# Altium schematic symbol library Main Shield Board.SchLib: 7 symbols
Pins are listed as number, name and electrical type; pins without a type are passive.

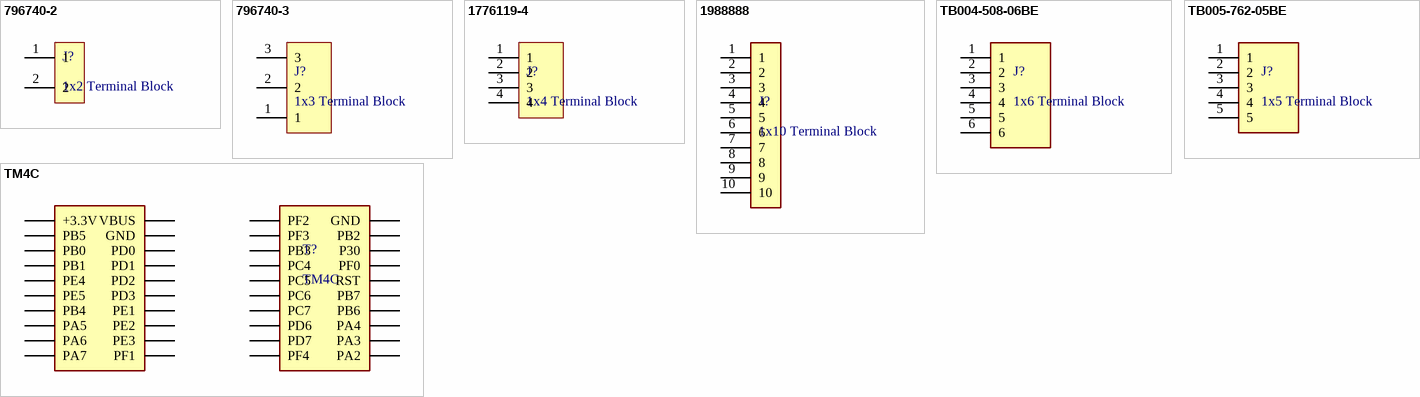
[diagram p0: symbols 796740-2 to TM4C]

## 796740-2
designator J?, comment 1x2 Terminal Block
Conn Terminal Block 2 POS 6.35mm Solder RA Thru-Hole 32A/Contact; Manufacturer: TE Connectivity; Manufacturer Part Number: 796740-2; Plating: Brass; Max Current Rating: 30A; Number of Poles: 2; Max Voltage Rating (AC): 300V; Number of Levels: 1; Connector Type: Plug; Interlock: Yes (With); Screw Flange: No (Without); Wire Gauge (Max): 24AWG; Thread Size: M3; Tail Length: 0.197inch; Approvals: UL; Supplier 1: Digi-Key; Supplier Part Number 1: A98275-ND; RoHS: Yes; Category: Terminal Blocks; Stock 1: 5197; Pricing 1: 1=2.26000, 10=1.70900, 25=1.58440, 50=1.42440, 100=1.38970, 250=1.21596, 500=1.11172, 1000=1.00750, 5000=0.92644 (USD); Mount: Through Hole; Contact Plating: Tin; Contact Material: Brass; Color: Green; Housing Color: Green; Housing Material: Polyamide; Number of Rows: 1; Current Rating: 30A; Package Quantity: 200; Packaging: Carton; Voltage Rating: 300V; Number of Positions: 2; Termination: Screw; Number of Positions Per Level: 2; Current: 30A; Voltage: 300V; Max Supply Voltage (AC): 300V; Number of Contacts: 2; Number of Circuits: 2; Orientation: Right Angle; Screwless Terminal Block: No (Without); Shrouded: No (Without); Side Stackable: No (Without); Series: Buchanan; Length: 13.3mm; Wire Gauge (Min): 24AWG; Pitch: 6.35mm; Depth: 12.5mm; Radiation Hardening: No; Lead Free: Lead Free; ELV: Compliant; Flammability Rating: UL94 V-0; RoHS Compliant: Yes; ComponentLink1URL: https://datasheet.ciiva.com/823/eng-cd-796740-c1-823477.pdf?src-supplier=Digi-Key; ComponentLink1Description: https://datasheet.ciiva.com/823/eng-cd-796740-c1-823477.pdf?src-supplier=Digi-Key; ComponentLink2URL: https://datasheet.ciiva.com/23766/eng-cd-796740-c1-23766211.pdf?src-supplier=Newark; ComponentLink2Description: https://datasheet.ciiva.com/23766/eng-cd-796740-c1-23766211.pdf?src-supplier=Newark; ComponentLink3URL: https://datasheet.ciiva.com/3141/eng-cs-1308389-eurostyle-terminal-blocks-0607-3141691.pdf?src-supplier=Avnet; ComponentLink3Description: https://datasheet.ciiva.com/3141/eng-cs-1308389-eurostyle-terminal-blocks-0607-3141691.pdf?src-supplier=Avnet; ComponentLink4URL: https://datasheet.ciiva.com/30130/eng-cs-1308389-eurostyle-terminal-blocks-0607-30130345.pdf?src-supplier=Onlinecomponents.com; ComponentLink4Description: https://datasheet.ciiva.com/30130/eng-cs-1308389-eurostyle-terminal-blocks-0607-30130345.pdf?src-supplier=Onlinecomponents.com; ComponentLink5URL: https://datasheet.ciiva.com/1416/1650926-1416332.pdf?src-supplier=Element14; ComponentLink5Description: https://datasheet.ciiva.com/1416/1650926-1416332.pdf?src-supplier=Element14
footprint TE_796740-2
pins: 1, 2

## 796740-3
designator J?, comment 1x3 Terminal Block
Conn Terminal Block 3 POS 6.35mm Solder ST Thru-Hole 32A/Contact; Manufacturer: TE Connectivity; Manufacturer Part Number: 796740-3; Plating: Brass; Current Rating: 30A; Voltage Rating (AC): 300V; Number of Positions: 3; Number of Levels: 1; Connector Type: Plug; Interlock: Yes (With); Screw Flange: No (Without); Wire Gauge (Max): 24AWG; Thread Size: M3; Tail Length: 0.197inch; Supplier 1: Digi-Key; Supplier Part Number 1: A98276-ND; RoHS: Yes; Category: Terminal Blocks; Stock 1: 7857; Pricing 1: 1=3.06000, 10=2.31700, 25=2.14760, 50=1.93080, 100=1.88370, 250=1.64828, 500=1.50700, 1000=1.36571, 5000=1.25583 (USD); Mount: Through Hole; Contact Plating: Tin; Contact Material: Brass; Color: Green; Housing Color: Green; Housing Material: Polyamide; Packaging: Carton; Number of Rows: 1; Package Quantity: 150; Max Voltage Rating (AC): 300V; Number of Positions Per Level: 3; Current: 30A; Voltage: 300V; Termination: Solder; Number of Circuits: 3; Number of Contacts: 3; Max Supply Voltage (AC): 300V; Orientation: Straight; Screwless Terminal Block: No (Without); Shrouded: No (Without); Side Stackable: No (Without); Max Current Rating: 30A; Series: Buchanan; Length: 19.65mm; Wire Gauge (Min): 24AWG; Pitch: 6.35mm; Depth: 12.5mm; Radiation Hardening: No; ELV: Compliant; Flammability Rating: UL94 V-0; RoHS Compliant: Yes; ComponentLink1URL: https://datasheet.ciiva.com/30191/eng-cs-1308389-eurostyle-terminal-blocks-0607-30191689.pdf?src-supplier=Onlinecomponents.com; ComponentLink1Description: https://datasheet.ciiva.com/30191/eng-cs-1308389-eurostyle-terminal-blocks-0607-30191689.pdf?src-supplier=Onlinecomponents.com
footprint TE_796740-3
pins: 1, 2, 3

## 1776119-4
designator J?, comment 1x4 Terminal Block
Conn Terminal Block F 4 POS 5.08mm Solder ST Thru-Hole 10A/Contact; Manufacturer: TE Connectivity; Manufacturer Part Number: 1776119-4; Plating: Brass; Current Rating: 10A; Voltage Rating: 300V; Number of Levels: 1; Number of Positions Per Level: 4; Current: 13.5A; Connector Type: Receptacle; Closed End: No (Without); Interlock: Yes (With); Wire Gauge (Max): 30AWG; Wire Gauge (Min): 16AWG; Thread Size: M3; Tail Length: 2.6mm; Supplier 1: Digi-Key; Supplier Part Number 1: A97986-ND; RoHS: Yes; Category: Terminal Blocks; Stock 1: 1063; Pricing 1: 1=1.92000, 10=1.45400, 25=1.34760, 50=1.21180, 100=1.18230, 250=1.03448, 500=0.94580, 1000=0.85714, 5000=0.78817 (USD); Mount: Through Hole; Contact Plating: Tin; Contact Material: Brass; Color: Black; Housing Color: Black; Housing Material: Polyamide; Packaging: Bulk; Package Quantity: 150; Number of Rows: 1; Max Voltage Rating (AC): 300V; Voltage: 300V; Termination: Solder; Number of Positions: 4; Max Supply Voltage (AC): 300V; Number of Circuits: 4; Number of Contacts: 4; Orientation: Straight; Max Current Rating: 10A; Screw Flange: No (Without); Screwless Terminal Block: No (Without); Shrouded: Yes (With); Side Stackable: Yes (With); Series: Buchanan; Length: 20.32mm; Pitch: 5.08mm; Depth: 8.2mm; Radiation Hardening: No; RoHS Compliant: Yes; Flammability Rating: UL94 V-0; ELV: Compliant; ComponentLink1URL: https://datasheet.ciiva.com/823/eng-cd-1776119-b6-823878.pdf?src-supplier=Digi-Key; ComponentLink1Description: https://datasheet.ciiva.com/823/eng-cd-1776119-b6-823878.pdf?src-supplier=Digi-Key; ComponentLink2URL: https://datasheet.ciiva.com/3141/eng-ds-1-1773458-1-euro-style-qrg-0810-3141525.pdf?src-supplier=Avnet; ComponentLink2Description: https://datasheet.ciiva.com/3141/eng-ds-1-1773458-1-euro-style-qrg-0810-3141525.pdf?src-supplier=Avnet
footprint TE_1776119-4
pins: 1, 2, 3, 4

## 1988888
designator J?, comment 1x10 Terminal Block
Conn PC Terminal Block 10 POS 5mm Solder Thru-Hole 17.5A; Manufacturer: Phoenix Contact; Manufacturer Part Number: 1988888; Number of Positions: 10; Current Rating: 24A; Voltage Rating: 250V; Number of Levels: 1; Current: 15A; Voltage: 300V; Wire Gauge (Max): 26AWG; Wire Gauge (Min): 12AWG; Approvals: UL,VDE,CB,EAC; Supplier 1: Digi-Key; Supplier Part Number 1: 277-1772-ND; RoHS: Yes; Category: Terminal Blocks; Stock 1: 781; Pricing 1: 1=2.29000, 10=2.18900, 50=2.12940, 100=1.99000, 250=1.89448 (USD); Mount: Through Hole; Weight: 0.358383oz; Color: Green; Housing Color: Green; Housing Material: Nylon; Number of Rows: 1; Package Quantity: 100; Packaging: Bulk; Series: COMBICON PTA; Max Current Rating: 17.5A; Number of Positions Per Level: 10; Termination: Screw; Number of Contacts: 10; Number of Circuits: 10; Number of Poles: 10; Length: 50mm; Width: 12.8mm; Height: 11.9mm; Pitch: 5mm; RoHS Compliant: Yes; Lead Free: Lead Free; Flammability Rating: UL94 V-0; ComponentLink1URL: https://datasheet.ciiva.com/16051/1988888-16051357.pdf?src-supplier=Onlinecomponents.com; ComponentLink1Description: https://datasheet.ciiva.com/16051/1988888-16051357.pdf?src-supplier=Onlinecomponents.com; ComponentLink2URL: https://datasheet.ciiva.com/824/combiconcompact5-0mmseries-824318.pdf?src-supplier=Digi-Key; ComponentLink2Description: https://datasheet.ciiva.com/824/combiconcompact5-0mmseries-824318.pdf?src-supplier=Digi-Key
footprint PHOENIX_1988888
pins: 1, 2, 3, 4, 5, 6, 7, 8, 9, 10

## TB004-508-06BE
designator J?, comment 1x6 Terminal Block
2~24 Poles, Screw Type, Horizontal, 5.08 Pitch, 24~12 (AWG), Terminal Block Connector; Manufacturer: CUI Devices; Manufacturer Part Number: TB004-508-06BE; Supplier 1: Digi-Key; Supplier Part Number 1: 102-6183-ND; RoHS: Yes; Category: Terminal Blocks; Stock 1: 685; Pricing 1: 1=1.50000, 10=1.05400, 25=0.98320, 50=0.89220, 100=0.88830, 250=0.75012, 500=0.71064, 1000=0.63168, 5000=0.52640 (USD)
footprint CUI_TB004-508-06BE
pins: 1, 2, 3, 4, 5, 6

## TB005-762-05BE
designator J?, comment 1x5 Terminal Block
2~24 Poles, Screw Type, Horizontal, 7.62 Pitch, 26~10 (AWG), Terminal Block Connector; Manufacturer: CUI Devices; Manufacturer Part Number: TB005-762-05BE; Supplier 1: Digi-Key; Supplier Part Number 1: TB005-762-05BE-ND; RoHS: Yes; Category: Terminal Blocks; Stock 1: 932; Pricing 1: 1=1.87000, 10=1.31200, 25=1.22360, 50=1.11060, 100=1.10560, 250=0.93368, 500=0.88452, 1000=0.78624, 5000=0.65520 (USD)
footprint CUI_TB005-762-05BE
pins: 1, 2, 3, 4, 5

## TM4C
designator T?
footprint SAMTEC_TSW-110-23-S-D
pins: +3.3V (power), GND, GND, P30, PA2, PA3, PA4, PA5, PA6, PA7, PB0, PB1, PB2, PB3, PB4, PB5, PB6, PB7, PC4, PC5, PC6, PC7, PD0, PD1, PD2, PD3, PD6, PD7, PE1, PE2, PE3, PE4, PE5, PF0, PF1, PF2, PF3, PF4, RST, VBUS (power)